# EAGLE library part JST-SR_4 (library DaneGardner)
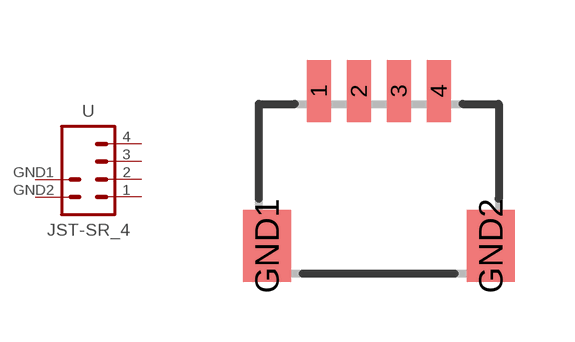
[diagram p5: symbol with the pads of JST-SR_4; footprint JST-SR_4]

Designator prefix -

## JST-SR_4  [JST-SR_4]
1  1  pas
2  2  pas
3  3  pas
4  4  pas
GND1  GND1  pas
GND2  GND2  pas

## Footprint JST-SR_4 (pad centres in mm)
smd 0.6 x 1.55: 1 -1.5,2; 2 -0.5,2; 3 0.5,2; 4 1.5,2
smd 1.2 x 1.8: GND1 -2.8,-1.875; GND2 2.8,-1.875